# EAGLE library part M08 (library KwanSystems)
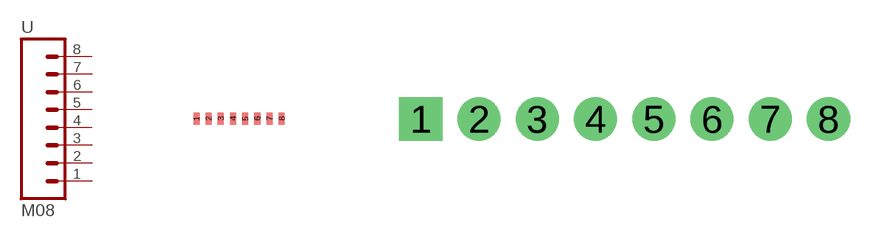
[diagram p9: symbol with the pads of M08_INTERFACE; footprints M08_INTERFACE, M08SIP]

Designator prefix -

## M08  [M08_INTERFACE]
1  1  pas
2  2  pas
3  3  pas
4  4  pas
5  5  pas
6  6  pas
7  7  pas
8  8  pas

## M08NOSILK  [M08SIP]
Pads as for M08_INTERFACE

## M08NOSILK2  [1X08]
Pads as for M08_INTERFACE

## Footprint M08_INTERFACE (pad centres in mm)
smd 0.152 x 0.305: 1 0,0; 2 0.305,0; 3 0.61,0; 4 0.914,0; 5 1.219,0; 6 1.524,0; 7 1.829,0; 8 2.134,0

## Footprint M08SIP (pad centres in mm)
drill 1.016 pad 1.88 square: 1 0,0
drill 1.016 pad 1.88: 2 2.54,0; 3 5.08,0; 4 7.62,0; 5 10.16,0; 6 12.7,0; 7 15.24,0; 8 17.78,0

## Footprint 1X08 (pad centres in mm)
drill 1.016 pad 1.88: 1 0,0; 2 2.54,0; 3 5.08,0; 4 7.62,0; 5 10.16,0; 6 12.7,0; 7 15.24,0; 8 17.78,0